# Altium schematic symbol library MCU_ST_STM32WL.SchLib: 16 symbols
Pins are listed as number, name and electrical type; pins without a type are passive.

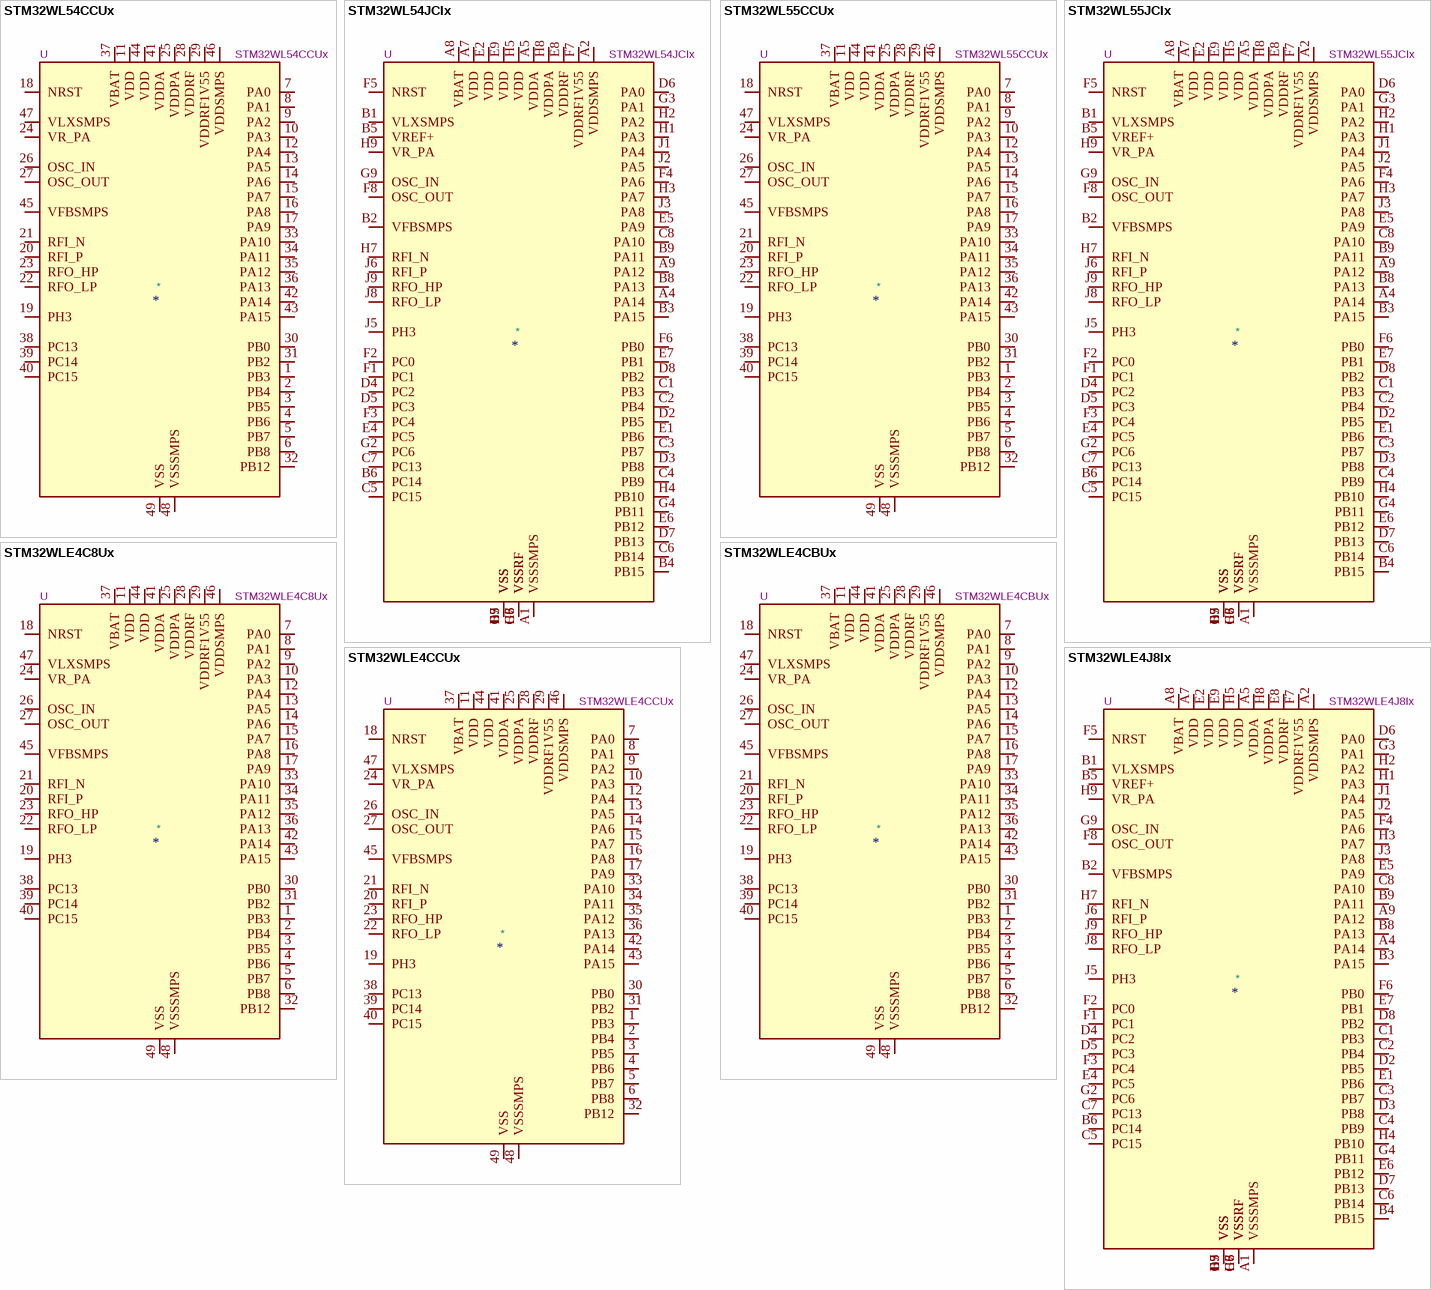
[diagram p0: symbols STM32WL54CCUx to STM32WLE4J8Ix]

## STM32WL54CCUx
designator *  value STM32WL54CCUx  Reference: U
STMicroelectronics Arm Cortex-M4 MCU, 256KB flash, 64KB RAM, 48 MHz, 1.8-3.6V, 29 GPIO, UFQFPN48; ki_keywords: Arm Cortex-M4 STM32WL STM32WL5x; ki_fp_filters: QFN*1EP*7x7mm*P0.5mm*; Footprint: Package_DFN_QFN:QFN-48-1EP_7x7mm_P0.5mm_EP5.6x5.6mm; Datasheet: https://www.st.com/resource/en/datasheet/stm32wl54cc.pdf; Description_: STMicroelectronics Arm Cortex-M4 MCU, 256KB flash, 64KB RAM, 48 MHz, 1.8-3.6V, 29 GPIO, UFQFPN48
pins: 1 PB3, 2 PB4, 3 PB5, 4 PB6, 5 PB7, 6 PB8, 7 PA0, 8 PA1, 9 PA2, 10 PA3, 11 VDD, 12 PA4, 13 PA5, 14 PA6, 15 PA7, 16 PA8, 17 PA9, 18 NRST, 19 PH3, 20 RFI_P, 21 RFI_N, 22 RFO_LP, 23 RFO_HP, 24 VR_PA, 25 VDDPA, 26 OSC_IN, 27 OSC_OUT, 28 VDDRF, 29 VDDRF1V55, 30 PB0, 31 PB2, 32 PB12, 33 PA10, 34 PA11, 35 PA12, 36 PA13, 37 VBAT, 38 PC13, 39 PC14, 40 PC15, 41 VDDA, 42 PA14, 43 PA15, 44 VDD, 45 VFBSMPS, 46 VDDSMPS, 47 VLXSMPS, 48 VSSSMPS, 49 VSS

## STM32WL54JCIx
designator *  value STM32WL54JCIx  Reference: U
STMicroelectronics Arm Cortex-M4 MCU, 256KB flash, 64KB RAM, 48 MHz, 1.8-3.6V, 43 GPIO, UFBGA73; ki_keywords: Arm Cortex-M4 STM32WL STM32WL5x; ki_fp_filters: ST*UFBGA*5x5mm*Layout9x9*P0.5mm*; Footprint: Package_BGA:ST_UFBGA-73_5x5mm_Layout9x9_P0.5mm; Datasheet: https://www.st.com/resource/en/datasheet/stm32wl54jc.pdf; Description_: STMicroelectronics Arm Cortex-M4 MCU, 256KB flash, 64KB RAM, 48 MHz, 1.8-3.6V, 43 GPIO, UFBGA73
pins: A1 VSSSMPS, A2 VDDSMPS, A4 PA14, A5 VDDA, A7 VDD, A8 VBAT, A9 PA12, B1 VLXSMPS, B2 VFBSMPS, B3 PA15, B4 PB15, B5 VREF+, B6 PC14, B7 VSS, B8 PA13, B9 PA11, C1 PB3, C2 PB4, C3 PB7, C4 PB9, C5 PC15, C6 PB14, C7 PC13, C8 PA10, D2 PB5, D3 PB8, D4 PC2, D5 PC3, D6 PA0, D7 PB13, D8 PB2, D9 VSS, E1 PB6, E2 VDD, E3 VSS, E4 PC5, E5 PA9, E6 PB12, E7 PB1, E8 VDDRF, E9 VDD, F1 PC1, F2 PC0, F3 PC4, F4 PA6, F5 NRST, F6 PB0, F7 VDDRF1V55, F8 OSC_OUT, G2 PC6, G3 PA1, G4 PB11, G5 VSS, G6 VSSRF, G7 VSSRF, G8 VSSRF, G9 OSC_IN, H1 PA3, H2 PA2, H3 PA7, H4 PB10, H5 VDD, H6 VSSRF, H7 RFI_N, H8 VDDPA, H9 VR_PA, J1 PA4, J2 PA5, J3 PA8, J5 PH3, J6 RFI_P, J8 RFO_LP, J9 RFO_HP

## STM32WL55CCUx
designator *  value STM32WL55CCUx  Reference: U
STMicroelectronics Arm Cortex-M4 MCU, 256KB flash, 64KB RAM, 48 MHz, 1.8-3.6V, 29 GPIO, UFQFPN48; ki_keywords: Arm Cortex-M4 STM32WL STM32WL5x; ki_fp_filters: QFN*1EP*7x7mm*P0.5mm*; Footprint: Package_DFN_QFN:QFN-48-1EP_7x7mm_P0.5mm_EP5.6x5.6mm; Datasheet: https://www.st.com/resource/en/datasheet/stm32wl55cc.pdf; Description_: STMicroelectronics Arm Cortex-M4 MCU, 256KB flash, 64KB RAM, 48 MHz, 1.8-3.6V, 29 GPIO, UFQFPN48
pins: 1 PB3, 2 PB4, 3 PB5, 4 PB6, 5 PB7, 6 PB8, 7 PA0, 8 PA1, 9 PA2, 10 PA3, 11 VDD, 12 PA4, 13 PA5, 14 PA6, 15 PA7, 16 PA8, 17 PA9, 18 NRST, 19 PH3, 20 RFI_P, 21 RFI_N, 22 RFO_LP, 23 RFO_HP, 24 VR_PA, 25 VDDPA, 26 OSC_IN, 27 OSC_OUT, 28 VDDRF, 29 VDDRF1V55, 30 PB0, 31 PB2, 32 PB12, 33 PA10, 34 PA11, 35 PA12, 36 PA13, 37 VBAT, 38 PC13, 39 PC14, 40 PC15, 41 VDDA, 42 PA14, 43 PA15, 44 VDD, 45 VFBSMPS, 46 VDDSMPS, 47 VLXSMPS, 48 VSSSMPS, 49 VSS

## STM32WL55JCIx
designator *  value STM32WL55JCIx  Reference: U
STMicroelectronics Arm Cortex-M4 MCU, 256KB flash, 64KB RAM, 48 MHz, 1.8-3.6V, 43 GPIO, UFBGA73; ki_keywords: Arm Cortex-M4 STM32WL STM32WL5x; ki_fp_filters: ST*UFBGA*5x5mm*Layout9x9*P0.5mm*; Footprint: Package_BGA:ST_UFBGA-73_5x5mm_Layout9x9_P0.5mm; Datasheet: https://www.st.com/resource/en/datasheet/stm32wl55jc.pdf; Description_: STMicroelectronics Arm Cortex-M4 MCU, 256KB flash, 64KB RAM, 48 MHz, 1.8-3.6V, 43 GPIO, UFBGA73
pins: A1 VSSSMPS, A2 VDDSMPS, A4 PA14, A5 VDDA, A7 VDD, A8 VBAT, A9 PA12, B1 VLXSMPS, B2 VFBSMPS, B3 PA15, B4 PB15, B5 VREF+, B6 PC14, B7 VSS, B8 PA13, B9 PA11, C1 PB3, C2 PB4, C3 PB7, C4 PB9, C5 PC15, C6 PB14, C7 PC13, C8 PA10, D2 PB5, D3 PB8, D4 PC2, D5 PC3, D6 PA0, D7 PB13, D8 PB2, D9 VSS, E1 PB6, E2 VDD, E3 VSS, E4 PC5, E5 PA9, E6 PB12, E7 PB1, E8 VDDRF, E9 VDD, F1 PC1, F2 PC0, F3 PC4, F4 PA6, F5 NRST, F6 PB0, F7 VDDRF1V55, F8 OSC_OUT, G2 PC6, G3 PA1, G4 PB11, G5 VSS, G6 VSSRF, G7 VSSRF, G8 VSSRF, G9 OSC_IN, H1 PA3, H2 PA2, H3 PA7, H4 PB10, H5 VDD, H6 VSSRF, H7 RFI_N, H8 VDDPA, H9 VR_PA, J1 PA4, J2 PA5, J3 PA8, J5 PH3, J6 RFI_P, J8 RFO_LP, J9 RFO_HP

## STM32WLE4C8Ux
designator *  value STM32WLE4C8Ux  Reference: U
STMicroelectronics Arm Cortex-M4 MCU, 64KB flash, 20KB RAM, 48 MHz, 1.8-3.6V, 29 GPIO, UFQFPN48; ki_keywords: Arm Cortex-M4 STM32WL STM32WLEx; ki_fp_filters: QFN*1EP*7x7mm*P0.5mm*; Footprint: Package_DFN_QFN:QFN-48-1EP_7x7mm_P0.5mm_EP5.6x5.6mm; Datasheet: https://www.st.com/resource/en/datasheet/stm32wle4c8.pdf; Description_: STMicroelectronics Arm Cortex-M4 MCU, 64KB flash, 20KB RAM, 48 MHz, 1.8-3.6V, 29 GPIO, UFQFPN48
pins: 1 PB3, 2 PB4, 3 PB5, 4 PB6, 5 PB7, 6 PB8, 7 PA0, 8 PA1, 9 PA2, 10 PA3, 11 VDD, 12 PA4, 13 PA5, 14 PA6, 15 PA7, 16 PA8, 17 PA9, 18 NRST, 19 PH3, 20 RFI_P, 21 RFI_N, 22 RFO_LP, 23 RFO_HP, 24 VR_PA, 25 VDDPA, 26 OSC_IN, 27 OSC_OUT, 28 VDDRF, 29 VDDRF1V55, 30 PB0, 31 PB2, 32 PB12, 33 PA10, 34 PA11, 35 PA12, 36 PA13, 37 VBAT, 38 PC13, 39 PC14, 40 PC15, 41 VDDA, 42 PA14, 43 PA15, 44 VDD, 45 VFBSMPS, 46 VDDSMPS, 47 VLXSMPS, 48 VSSSMPS, 49 VSS

## STM32WLE4CBUx
designator *  value STM32WLE4CBUx  Reference: U
STMicroelectronics Arm Cortex-M4 MCU, 128KB flash, 48KB RAM, 48 MHz, 1.8-3.6V, 29 GPIO, UFQFPN48; ki_keywords: Arm Cortex-M4 STM32WL STM32WLEx; ki_fp_filters: QFN*1EP*7x7mm*P0.5mm*; Footprint: Package_DFN_QFN:QFN-48-1EP_7x7mm_P0.5mm_EP5.6x5.6mm; Datasheet: https://www.st.com/resource/en/datasheet/stm32wle4cb.pdf; Description_: STMicroelectronics Arm Cortex-M4 MCU, 128KB flash, 48KB RAM, 48 MHz, 1.8-3.6V, 29 GPIO, UFQFPN48
pins: 1 PB3, 2 PB4, 3 PB5, 4 PB6, 5 PB7, 6 PB8, 7 PA0, 8 PA1, 9 PA2, 10 PA3, 11 VDD, 12 PA4, 13 PA5, 14 PA6, 15 PA7, 16 PA8, 17 PA9, 18 NRST, 19 PH3, 20 RFI_P, 21 RFI_N, 22 RFO_LP, 23 RFO_HP, 24 VR_PA, 25 VDDPA, 26 OSC_IN, 27 OSC_OUT, 28 VDDRF, 29 VDDRF1V55, 30 PB0, 31 PB2, 32 PB12, 33 PA10, 34 PA11, 35 PA12, 36 PA13, 37 VBAT, 38 PC13, 39 PC14, 40 PC15, 41 VDDA, 42 PA14, 43 PA15, 44 VDD, 45 VFBSMPS, 46 VDDSMPS, 47 VLXSMPS, 48 VSSSMPS, 49 VSS

## STM32WLE4CCUx
designator *  value STM32WLE4CCUx  Reference: U
STMicroelectronics Arm Cortex-M4 MCU, 256KB flash, 64KB RAM, 48 MHz, 1.8-3.6V, 29 GPIO, UFQFPN48; ki_keywords: Arm Cortex-M4 STM32WL STM32WLEx; ki_fp_filters: QFN*1EP*7x7mm*P0.5mm*; Footprint: Package_DFN_QFN:QFN-48-1EP_7x7mm_P0.5mm_EP5.6x5.6mm; Datasheet: https://www.st.com/resource/en/datasheet/stm32wle4cc.pdf; Description_: STMicroelectronics Arm Cortex-M4 MCU, 256KB flash, 64KB RAM, 48 MHz, 1.8-3.6V, 29 GPIO, UFQFPN48
pins: 1 PB3, 2 PB4, 3 PB5, 4 PB6, 5 PB7, 6 PB8, 7 PA0, 8 PA1, 9 PA2, 10 PA3, 11 VDD, 12 PA4, 13 PA5, 14 PA6, 15 PA7, 16 PA8, 17 PA9, 18 NRST, 19 PH3, 20 RFI_P, 21 RFI_N, 22 RFO_LP, 23 RFO_HP, 24 VR_PA, 25 VDDPA, 26 OSC_IN, 27 OSC_OUT, 28 VDDRF, 29 VDDRF1V55, 30 PB0, 31 PB2, 32 PB12, 33 PA10, 34 PA11, 35 PA12, 36 PA13, 37 VBAT, 38 PC13, 39 PC14, 40 PC15, 41 VDDA, 42 PA14, 43 PA15, 44 VDD, 45 VFBSMPS, 46 VDDSMPS, 47 VLXSMPS, 48 VSSSMPS, 49 VSS

## STM32WLE4J8Ix
designator *  value STM32WLE4J8Ix  Reference: U
STMicroelectronics Arm Cortex-M4 MCU, 64KB flash, 20KB RAM, 48 MHz, 1.8-3.6V, 43 GPIO, UFBGA73; ki_keywords: Arm Cortex-M4 STM32WL STM32WLEx; ki_fp_filters: ST*UFBGA*5x5mm*Layout9x9*P0.5mm*; Footprint: Package_BGA:ST_UFBGA-73_5x5mm_Layout9x9_P0.5mm; Datasheet: https://www.st.com/resource/en/datasheet/stm32wle4j8.pdf; Description_: STMicroelectronics Arm Cortex-M4 MCU, 64KB flash, 20KB RAM, 48 MHz, 1.8-3.6V, 43 GPIO, UFBGA73
pins: A1 VSSSMPS, A2 VDDSMPS, A4 PA14, A5 VDDA, A7 VDD, A8 VBAT, A9 PA12, B1 VLXSMPS, B2 VFBSMPS, B3 PA15, B4 PB15, B5 VREF+, B6 PC14, B7 VSS, B8 PA13, B9 PA11, C1 PB3, C2 PB4, C3 PB7, C4 PB9, C5 PC15, C6 PB14, C7 PC13, C8 PA10, D2 PB5, D3 PB8, D4 PC2, D5 PC3, D6 PA0, D7 PB13, D8 PB2, D9 VSS, E1 PB6, E2 VDD, E3 VSS, E4 PC5, E5 PA9, E6 PB12, E7 PB1, E8 VDDRF, E9 VDD, F1 PC1, F2 PC0, F3 PC4, F4 PA6, F5 NRST, F6 PB0, F7 VDDRF1V55, F8 OSC_OUT, G2 PC6, G3 PA1, G4 PB11, G5 VSS, G6 VSSRF, G7 VSSRF, G8 VSSRF, G9 OSC_IN, H1 PA3, H2 PA2, H3 PA7, H4 PB10, H5 VDD, H6 VSSRF, H7 RFI_N, H8 VDDPA, H9 VR_PA, J1 PA4, J2 PA5, J3 PA8, J5 PH3, J6 RFI_P, J8 RFO_LP, J9 RFO_HP

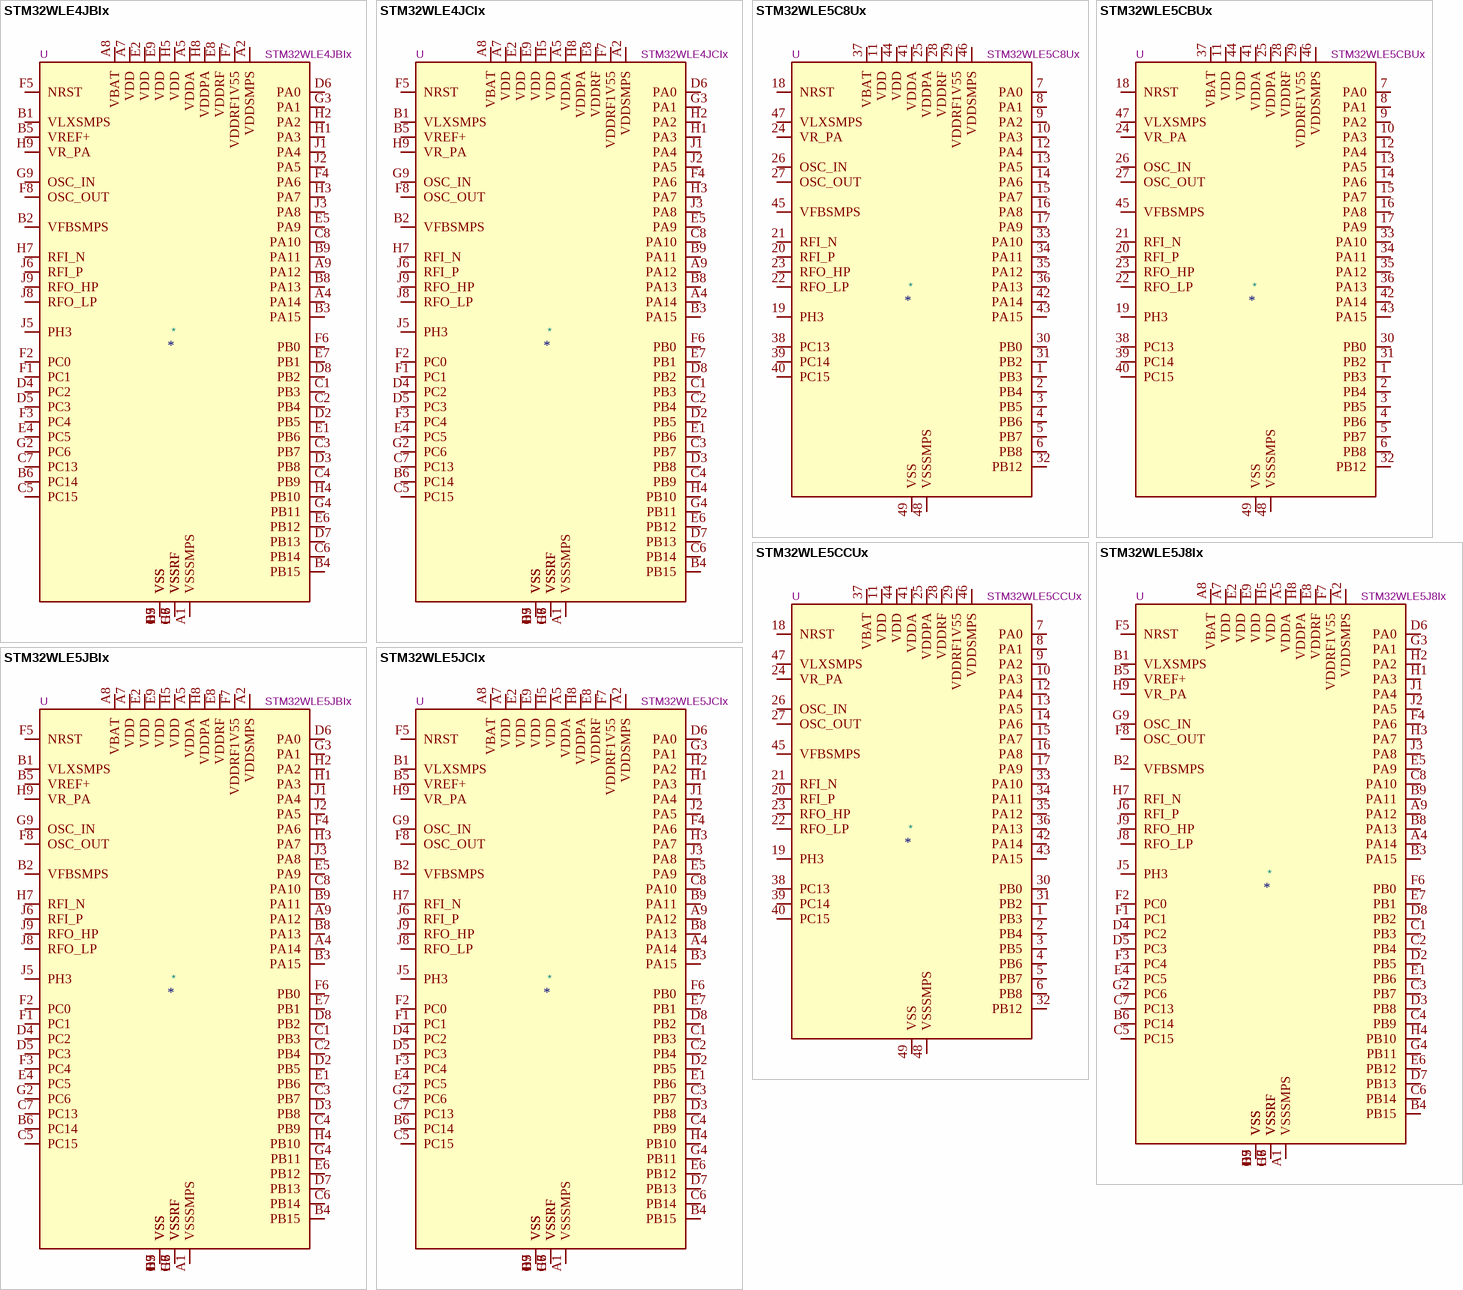
[diagram p1: symbols STM32WLE4JBIx to STM32WLE5JCIx]

## STM32WLE4JBIx
designator *  value STM32WLE4JBIx  Reference: U
STMicroelectronics Arm Cortex-M4 MCU, 128KB flash, 48KB RAM, 48 MHz, 1.8-3.6V, 43 GPIO, UFBGA73; ki_keywords: Arm Cortex-M4 STM32WL STM32WLEx; ki_fp_filters: ST*UFBGA*5x5mm*Layout9x9*P0.5mm*; Footprint: Package_BGA:ST_UFBGA-73_5x5mm_Layout9x9_P0.5mm; Datasheet: https://www.st.com/resource/en/datasheet/stm32wle4jb.pdf; Description_: STMicroelectronics Arm Cortex-M4 MCU, 128KB flash, 48KB RAM, 48 MHz, 1.8-3.6V, 43 GPIO, UFBGA73
pins: A1 VSSSMPS, A2 VDDSMPS, A4 PA14, A5 VDDA, A7 VDD, A8 VBAT, A9 PA12, B1 VLXSMPS, B2 VFBSMPS, B3 PA15, B4 PB15, B5 VREF+, B6 PC14, B7 VSS, B8 PA13, B9 PA11, C1 PB3, C2 PB4, C3 PB7, C4 PB9, C5 PC15, C6 PB14, C7 PC13, C8 PA10, D2 PB5, D3 PB8, D4 PC2, D5 PC3, D6 PA0, D7 PB13, D8 PB2, D9 VSS, E1 PB6, E2 VDD, E3 VSS, E4 PC5, E5 PA9, E6 PB12, E7 PB1, E8 VDDRF, E9 VDD, F1 PC1, F2 PC0, F3 PC4, F4 PA6, F5 NRST, F6 PB0, F7 VDDRF1V55, F8 OSC_OUT, G2 PC6, G3 PA1, G4 PB11, G5 VSS, G6 VSSRF, G7 VSSRF, G8 VSSRF, G9 OSC_IN, H1 PA3, H2 PA2, H3 PA7, H4 PB10, H5 VDD, H6 VSSRF, H7 RFI_N, H8 VDDPA, H9 VR_PA, J1 PA4, J2 PA5, J3 PA8, J5 PH3, J6 RFI_P, J8 RFO_LP, J9 RFO_HP

## STM32WLE4JCIx
designator *  value STM32WLE4JCIx  Reference: U
STMicroelectronics Arm Cortex-M4 MCU, 256KB flash, 64KB RAM, 48 MHz, 1.8-3.6V, 43 GPIO, UFBGA73; ki_keywords: Arm Cortex-M4 STM32WL STM32WLEx; ki_fp_filters: ST*UFBGA*5x5mm*Layout9x9*P0.5mm*; Footprint: Package_BGA:ST_UFBGA-73_5x5mm_Layout9x9_P0.5mm; Datasheet: https://www.st.com/resource/en/datasheet/stm32wle4jc.pdf; Description_: STMicroelectronics Arm Cortex-M4 MCU, 256KB flash, 64KB RAM, 48 MHz, 1.8-3.6V, 43 GPIO, UFBGA73
pins: A1 VSSSMPS, A2 VDDSMPS, A4 PA14, A5 VDDA, A7 VDD, A8 VBAT, A9 PA12, B1 VLXSMPS, B2 VFBSMPS, B3 PA15, B4 PB15, B5 VREF+, B6 PC14, B7 VSS, B8 PA13, B9 PA11, C1 PB3, C2 PB4, C3 PB7, C4 PB9, C5 PC15, C6 PB14, C7 PC13, C8 PA10, D2 PB5, D3 PB8, D4 PC2, D5 PC3, D6 PA0, D7 PB13, D8 PB2, D9 VSS, E1 PB6, E2 VDD, E3 VSS, E4 PC5, E5 PA9, E6 PB12, E7 PB1, E8 VDDRF, E9 VDD, F1 PC1, F2 PC0, F3 PC4, F4 PA6, F5 NRST, F6 PB0, F7 VDDRF1V55, F8 OSC_OUT, G2 PC6, G3 PA1, G4 PB11, G5 VSS, G6 VSSRF, G7 VSSRF, G8 VSSRF, G9 OSC_IN, H1 PA3, H2 PA2, H3 PA7, H4 PB10, H5 VDD, H6 VSSRF, H7 RFI_N, H8 VDDPA, H9 VR_PA, J1 PA4, J2 PA5, J3 PA8, J5 PH3, J6 RFI_P, J8 RFO_LP, J9 RFO_HP

## STM32WLE5C8Ux
designator *  value STM32WLE5C8Ux  Reference: U
STMicroelectronics Arm Cortex-M4 MCU, 64KB flash, 20KB RAM, 48 MHz, 1.8-3.6V, 29 GPIO, UFQFPN48; ki_keywords: Arm Cortex-M4 STM32WL STM32WLEx; ki_fp_filters: QFN*1EP*7x7mm*P0.5mm*; Footprint: Package_DFN_QFN:QFN-48-1EP_7x7mm_P0.5mm_EP5.6x5.6mm; Datasheet: https://www.st.com/resource/en/datasheet/stm32wle5c8.pdf; Description_: STMicroelectronics Arm Cortex-M4 MCU, 64KB flash, 20KB RAM, 48 MHz, 1.8-3.6V, 29 GPIO, UFQFPN48
pins: 1 PB3, 2 PB4, 3 PB5, 4 PB6, 5 PB7, 6 PB8, 7 PA0, 8 PA1, 9 PA2, 10 PA3, 11 VDD, 12 PA4, 13 PA5, 14 PA6, 15 PA7, 16 PA8, 17 PA9, 18 NRST, 19 PH3, 20 RFI_P, 21 RFI_N, 22 RFO_LP, 23 RFO_HP, 24 VR_PA, 25 VDDPA, 26 OSC_IN, 27 OSC_OUT, 28 VDDRF, 29 VDDRF1V55, 30 PB0, 31 PB2, 32 PB12, 33 PA10, 34 PA11, 35 PA12, 36 PA13, 37 VBAT, 38 PC13, 39 PC14, 40 PC15, 41 VDDA, 42 PA14, 43 PA15, 44 VDD, 45 VFBSMPS, 46 VDDSMPS, 47 VLXSMPS, 48 VSSSMPS, 49 VSS

## STM32WLE5CBUx
designator *  value STM32WLE5CBUx  Reference: U
STMicroelectronics Arm Cortex-M4 MCU, 128KB flash, 48KB RAM, 48 MHz, 1.8-3.6V, 29 GPIO, UFQFPN48; ki_keywords: Arm Cortex-M4 STM32WL STM32WLEx; ki_fp_filters: QFN*1EP*7x7mm*P0.5mm*; Footprint: Package_DFN_QFN:QFN-48-1EP_7x7mm_P0.5mm_EP5.6x5.6mm; Datasheet: https://www.st.com/resource/en/datasheet/stm32wle5cb.pdf; Description_: STMicroelectronics Arm Cortex-M4 MCU, 128KB flash, 48KB RAM, 48 MHz, 1.8-3.6V, 29 GPIO, UFQFPN48
pins: 1 PB3, 2 PB4, 3 PB5, 4 PB6, 5 PB7, 6 PB8, 7 PA0, 8 PA1, 9 PA2, 10 PA3, 11 VDD, 12 PA4, 13 PA5, 14 PA6, 15 PA7, 16 PA8, 17 PA9, 18 NRST, 19 PH3, 20 RFI_P, 21 RFI_N, 22 RFO_LP, 23 RFO_HP, 24 VR_PA, 25 VDDPA, 26 OSC_IN, 27 OSC_OUT, 28 VDDRF, 29 VDDRF1V55, 30 PB0, 31 PB2, 32 PB12, 33 PA10, 34 PA11, 35 PA12, 36 PA13, 37 VBAT, 38 PC13, 39 PC14, 40 PC15, 41 VDDA, 42 PA14, 43 PA15, 44 VDD, 45 VFBSMPS, 46 VDDSMPS, 47 VLXSMPS, 48 VSSSMPS, 49 VSS

## STM32WLE5CCUx
designator *  value STM32WLE5CCUx  Reference: U
STMicroelectronics Arm Cortex-M4 MCU, 256KB flash, 64KB RAM, 48 MHz, 1.8-3.6V, 29 GPIO, UFQFPN48; ki_keywords: Arm Cortex-M4 STM32WL STM32WLEx; ki_fp_filters: QFN*1EP*7x7mm*P0.5mm*; Footprint: Package_DFN_QFN:QFN-48-1EP_7x7mm_P0.5mm_EP5.6x5.6mm; Datasheet: https://www.st.com/resource/en/datasheet/stm32wle5cc.pdf; Description_: STMicroelectronics Arm Cortex-M4 MCU, 256KB flash, 64KB RAM, 48 MHz, 1.8-3.6V, 29 GPIO, UFQFPN48
pins: 1 PB3, 2 PB4, 3 PB5, 4 PB6, 5 PB7, 6 PB8, 7 PA0, 8 PA1, 9 PA2, 10 PA3, 11 VDD, 12 PA4, 13 PA5, 14 PA6, 15 PA7, 16 PA8, 17 PA9, 18 NRST, 19 PH3, 20 RFI_P, 21 RFI_N, 22 RFO_LP, 23 RFO_HP, 24 VR_PA, 25 VDDPA, 26 OSC_IN, 27 OSC_OUT, 28 VDDRF, 29 VDDRF1V55, 30 PB0, 31 PB2, 32 PB12, 33 PA10, 34 PA11, 35 PA12, 36 PA13, 37 VBAT, 38 PC13, 39 PC14, 40 PC15, 41 VDDA, 42 PA14, 43 PA15, 44 VDD, 45 VFBSMPS, 46 VDDSMPS, 47 VLXSMPS, 48 VSSSMPS, 49 VSS

## STM32WLE5J8Ix
designator *  value STM32WLE5J8Ix  Reference: U
STMicroelectronics Arm Cortex-M4 MCU, 64KB flash, 20KB RAM, 48 MHz, 1.8-3.6V, 43 GPIO, UFBGA73; ki_keywords: Arm Cortex-M4 STM32WL STM32WLEx; ki_fp_filters: ST*UFBGA*5x5mm*Layout9x9*P0.5mm*; Footprint: Package_BGA:ST_UFBGA-73_5x5mm_Layout9x9_P0.5mm; Datasheet: https://www.st.com/resource/en/datasheet/stm32wle5j8.pdf; Description_: STMicroelectronics Arm Cortex-M4 MCU, 64KB flash, 20KB RAM, 48 MHz, 1.8-3.6V, 43 GPIO, UFBGA73
pins: A1 VSSSMPS, A2 VDDSMPS, A4 PA14, A5 VDDA, A7 VDD, A8 VBAT, A9 PA12, B1 VLXSMPS, B2 VFBSMPS, B3 PA15, B4 PB15, B5 VREF+, B6 PC14, B7 VSS, B8 PA13, B9 PA11, C1 PB3, C2 PB4, C3 PB7, C4 PB9, C5 PC15, C6 PB14, C7 PC13, C8 PA10, D2 PB5, D3 PB8, D4 PC2, D5 PC3, D6 PA0, D7 PB13, D8 PB2, D9 VSS, E1 PB6, E2 VDD, E3 VSS, E4 PC5, E5 PA9, E6 PB12, E7 PB1, E8 VDDRF, E9 VDD, F1 PC1, F2 PC0, F3 PC4, F4 PA6, F5 NRST, F6 PB0, F7 VDDRF1V55, F8 OSC_OUT, G2 PC6, G3 PA1, G4 PB11, G5 VSS, G6 VSSRF, G7 VSSRF, G8 VSSRF, G9 OSC_IN, H1 PA3, H2 PA2, H3 PA7, H4 PB10, H5 VDD, H6 VSSRF, H7 RFI_N, H8 VDDPA, H9 VR_PA, J1 PA4, J2 PA5, J3 PA8, J5 PH3, J6 RFI_P, J8 RFO_LP, J9 RFO_HP

## STM32WLE5JBIx
designator *  value STM32WLE5JBIx  Reference: U
STMicroelectronics Arm Cortex-M4 MCU, 128KB flash, 48KB RAM, 48 MHz, 1.8-3.6V, 43 GPIO, UFBGA73; ki_keywords: Arm Cortex-M4 STM32WL STM32WLEx; ki_fp_filters: ST*UFBGA*5x5mm*Layout9x9*P0.5mm*; Footprint: Package_BGA:ST_UFBGA-73_5x5mm_Layout9x9_P0.5mm; Datasheet: https://www.st.com/resource/en/datasheet/stm32wle5jb.pdf; Description_: STMicroelectronics Arm Cortex-M4 MCU, 128KB flash, 48KB RAM, 48 MHz, 1.8-3.6V, 43 GPIO, UFBGA73
pins: A1 VSSSMPS, A2 VDDSMPS, A4 PA14, A5 VDDA, A7 VDD, A8 VBAT, A9 PA12, B1 VLXSMPS, B2 VFBSMPS, B3 PA15, B4 PB15, B5 VREF+, B6 PC14, B7 VSS, B8 PA13, B9 PA11, C1 PB3, C2 PB4, C3 PB7, C4 PB9, C5 PC15, C6 PB14, C7 PC13, C8 PA10, D2 PB5, D3 PB8, D4 PC2, D5 PC3, D6 PA0, D7 PB13, D8 PB2, D9 VSS, E1 PB6, E2 VDD, E3 VSS, E4 PC5, E5 PA9, E6 PB12, E7 PB1, E8 VDDRF, E9 VDD, F1 PC1, F2 PC0, F3 PC4, F4 PA6, F5 NRST, F6 PB0, F7 VDDRF1V55, F8 OSC_OUT, G2 PC6, G3 PA1, G4 PB11, G5 VSS, G6 VSSRF, G7 VSSRF, G8 VSSRF, G9 OSC_IN, H1 PA3, H2 PA2, H3 PA7, H4 PB10, H5 VDD, H6 VSSRF, H7 RFI_N, H8 VDDPA, H9 VR_PA, J1 PA4, J2 PA5, J3 PA8, J5 PH3, J6 RFI_P, J8 RFO_LP, J9 RFO_HP

## STM32WLE5JCIx
designator *  value STM32WLE5JCIx  Reference: U
STMicroelectronics Arm Cortex-M4 MCU, 256KB flash, 64KB RAM, 48 MHz, 1.8-3.6V, 43 GPIO, UFBGA73; ki_keywords: Arm Cortex-M4 STM32WL STM32WLEx; ki_fp_filters: ST*UFBGA*5x5mm*Layout9x9*P0.5mm*; Footprint: Package_BGA:ST_UFBGA-73_5x5mm_Layout9x9_P0.5mm; Datasheet: https://www.st.com/resource/en/datasheet/stm32wle5jc.pdf; Description_: STMicroelectronics Arm Cortex-M4 MCU, 256KB flash, 64KB RAM, 48 MHz, 1.8-3.6V, 43 GPIO, UFBGA73
pins: A1 VSSSMPS, A2 VDDSMPS, A4 PA14, A5 VDDA, A7 VDD, A8 VBAT, A9 PA12, B1 VLXSMPS, B2 VFBSMPS, B3 PA15, B4 PB15, B5 VREF+, B6 PC14, B7 VSS, B8 PA13, B9 PA11, C1 PB3, C2 PB4, C3 PB7, C4 PB9, C5 PC15, C6 PB14, C7 PC13, C8 PA10, D2 PB5, D3 PB8, D4 PC2, D5 PC3, D6 PA0, D7 PB13, D8 PB2, D9 VSS, E1 PB6, E2 VDD, E3 VSS, E4 PC5, E5 PA9, E6 PB12, E7 PB1, E8 VDDRF, E9 VDD, F1 PC1, F2 PC0, F3 PC4, F4 PA6, F5 NRST, F6 PB0, F7 VDDRF1V55, F8 OSC_OUT, G2 PC6, G3 PA1, G4 PB11, G5 VSS, G6 VSSRF, G7 VSSRF, G8 VSSRF, G9 OSC_IN, H1 PA3, H2 PA2, H3 PA7, H4 PB10, H5 VDD, H6 VSSRF, H7 RFI_N, H8 VDDPA, H9 VR_PA, J1 PA4, J2 PA5, J3 PA8, J5 PH3, J6 RFI_P, J8 RFO_LP, J9 RFO_HP